# EAGLE library part XR18W753IL48-F (library Exar_By_element14_Batch_1)
RF TRANSCEIVER
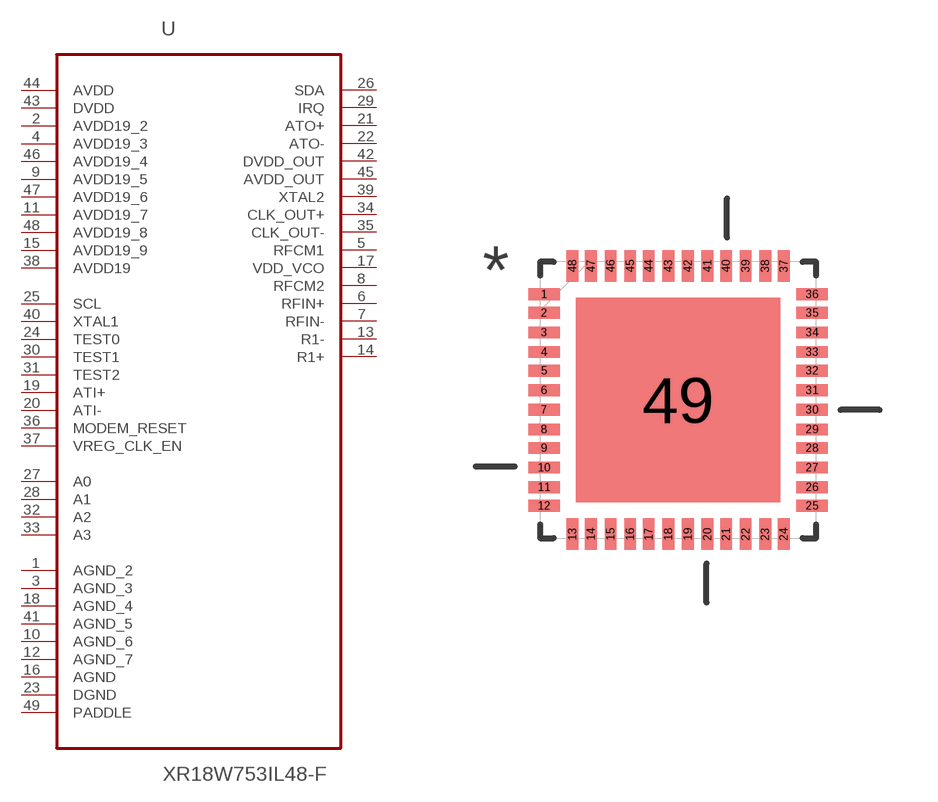
[diagram p75: symbol with the pads of QFN50P700X700X100-49N; footprint QFN50P700X700X100-49N]

Designator prefix U

## XR18W753IL48-F (MPN: XR18W753IL48-F; OC_FARNELL: 1798624; OC_NEWARK: 24R2313; PACKAGE: QFN-48; SUPPLIER: Exar)  [QFN50P700X700X100-49N]
1  AGND_2  pas
2  AVDD19_2  pwr
3  AGND_3  pas
4  AVDD19_3  pwr
5  RFCM1  out
6  RFIN+
7  RFIN-
8  RFCM2  out
9  AVDD19_5  pwr
10  AGND_6  pas
11  AVDD19_7  pwr
12  AGND_7  pas
13  R1-
14  R1+
15  AVDD19_9  pwr
16  AGND  pas
17  VDD_VCO  out
18  AGND_4  pas
19  ATI+  in
20  ATI-  in
21  ATO+  out
22  ATO-  out
23  DGND  pas
24  TEST0  in
25  SCL  in
26  SDA
27  A0  in
28  A1  in
29  IRQ  out
30  TEST1  in
31  TEST2  in
32  A2  in
33  A3  in
34  CLK_OUT+  out
35  CLK_OUT-  out
36  MODEM_RESET  in
37  VREG_CLK_EN  in
38  AVDD19  pwr
39  XTAL2  out
40  XTAL1  in
41  AGND_5  pas
42  DVDD_OUT  out
43  DVDD  pwr
44  AVDD  pwr
45  AVDD_OUT  out
46  AVDD19_4  pwr
47  AVDD19_6  pwr
48  AVDD19_8  pwr
49  PADDLE  pas

## Footprint QFN50P700X700X100-49N (pad centres in mm)
smd 0.813 x 0.305: 1 -3.48,2.743; 2 -3.48,2.261; 3 -3.48,1.753; 4 -3.48,1.245; 5 -3.48,0.762; 6 -3.48,0.254; 7 -3.48,-0.254; 8 -3.48,-0.762; 9 -3.48,-1.245; 10 -3.48,-1.753; 11 -3.48,-2.261; 12 -3.48,-2.743; 25 3.48,-2.743; 26 3.48,-2.261; 27 3.48,-1.753; 28 3.48,-1.245; 29 3.48,-0.762; 30 3.48,-0.254; 31 3.48,0.254; 32 3.48,0.762; 33 3.48,1.245; 34 3.48,1.753; 35 3.48,2.261; 36 3.48,2.743
smd 0.305 x 0.813: 13 -2.743,-3.48; 14 -2.261,-3.48; 15 -1.753,-3.48; 16 -1.245,-3.48; 17 -0.762,-3.48; 18 -0.254,-3.48; 19 0.254,-3.48; 20 0.762,-3.48; 21 1.245,-3.48; 22 1.753,-3.48; 23 2.261,-3.48; 24 2.743,-3.48; 37 2.743,3.48; 38 2.261,3.48; 39 1.753,3.48; 40 1.245,3.48; 41 0.762,3.48; 42 0.254,3.48; 43 -0.254,3.48; 44 -0.762,3.48; 45 -1.245,3.48; 46 -1.753,3.48; 47 -2.261,3.48; 48 -2.743,3.48
smd 5.309 x 5.309: 49 0,0